# Altium integrated library TP4056.IntLib: 1 symbol
Pins are listed as number, name and electrical type; pins without a type are passive.

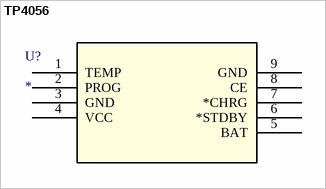
[diagram p0: symbol TP4056]

## TP4056
designator U?
No Description Available; Mfr_Name: TOPPOWER; RefDes: RefDes; Type: Type
footprint ESOP8_TPW
pins: 1 TEMP, 2 PROG, 3 GND (power), 4 VCC (power), 5 BAT, 6 *STDBY, 7 *CHRG, 8 CE, 9 GND (power)